# EAGLE library part TPS6282* (library bschulz)
TPS6282x - Step Down Converter (Buck) with 1% Accuracy Characteristics: Vin: 2.4V ~ 5.5V Vout: 0.6V ~ 4V Output Current: 1A (TPS62821), 2A (TPS62822), 3A (TPS62823) IQ: 4μA (typ), 10μA (max) Operating Temperature: -40°C to 85°C Digikey: 296-50127-1-ND (1A) <https://www.digikey.com/product-detail/en/texas-instruments/TPS62821DLCR/296-50127-1-ND/9462910> 296-49512-1-ND (2A) <https://www.digikey.com/product-detail/en/texas-instruments/TPS62822DLCT/296-49512-1-ND/9383861> 296-50225-1-ND (3A) <https://www.digikey.com/product-detail/en/texas-instruments/TPS62823DLCT/296-50225-1-ND/9554642>
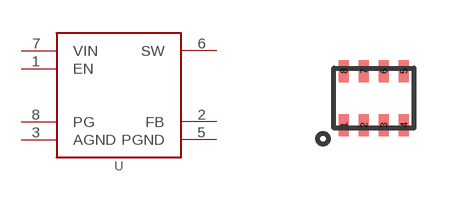
[diagram p63: symbol with the pads of DLC_8; footprint DLC_8]

Designator prefix U

## TPS6282DLC (DISP: TPS6282x; MF: TI), TPS62821DLC (DIGIKEY: 296-50127-1-ND; DISP: TPS62821; MF: TI; MOUSER: 595-TPS62821DLCR; MPN: TPS62821DLCR), TPS62822DLC (DIGIKEY: 296-49512-1-ND; DISP: TPS62822; MF: TI; MOUSER: 595-TPS62822DLCR; MPN: TPS62822DLCT), TPS62823DLC (DIGIKEY: 296-50225-1-ND; DISP: TPS62823; MF: TI; MOUSER: 595-TPS62823DLCR; MPN: TPS62823DLCT)  [DLC_8]
1  EN  in
2  FB  in
3  AGND  pwr
5  PGND  pwr
6  SW  pwr
7  VIN  pwr
8  PG  in

## Footprint DLC_8 (pad centres in mm)
DLC, 8 pin, VQFN
smd 0.25 x 0.55: 1 -0.75,-0.675; 2 -0.25,-0.675; 3 0.25,-0.675; 4 0.75,-0.675; 5 0.75,0.675; 6 0.25,0.675; 7 -0.25,0.675; 8 -0.75,0.675